# Altium footprint library TPS62932DRLR.PcbLib: 3 footprints
Each footprint in its own frame and in the unit in brackets; x right, y up, seen from the top. Pads: shape width x height; smd on the part's side, far side on the other; paste and mask are expansions set on the pad; w line width, h text height; cw(c..) or ccw(c..) is an arc to the next point about the centre after c.
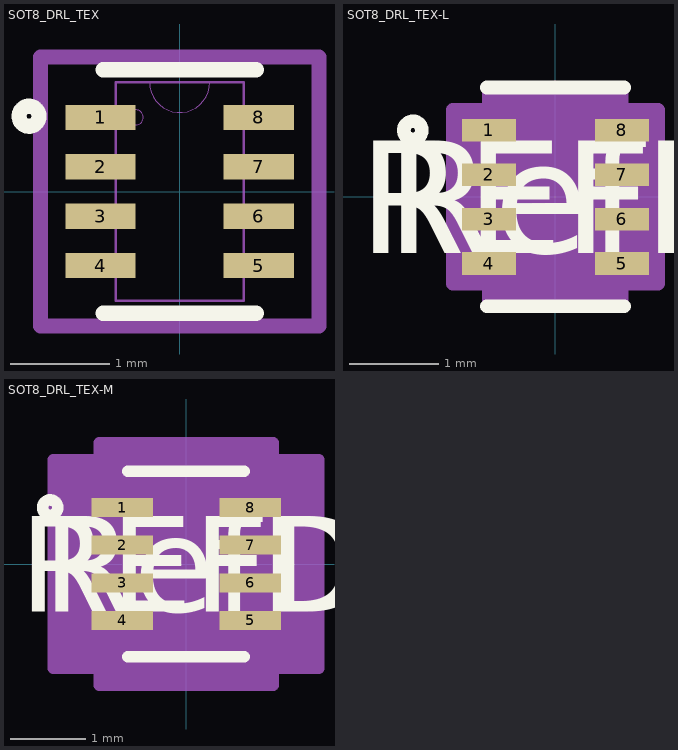
[diagram p0: the footprints below, top view; thin cyan lines are the x and y axes]

## SOT8_DRL_TEX [mil]
pads (8):
  rect 28x10 smd paste+0 mask+0: 1(-31.5,29.54) 2(-31.5,9.85) 3(-31.5,-9.85) 4(-31.5,-29.54) 5(31.5,-29.54) 6(31.5,-9.85) 7(31.5,9.85) 8(31.5,29.54)
Top Overlay:
  circle w6: c-60,30 r4
  lines w6: -30.5,-48.5 30.5,-48.5 ; -30.5,48.5 30.5,48.5
Mechanical 13:
  circle w0: c-17.5,29.54 r3
  lines w0: -12,43.5 ccw(c0,43.5) 12,43.5
  lines w1: -25.5,-43.5 25.5,-43.5 25.5,43.5 -25.5,43.5 -25.5,-43.5
Mechanical 15:
  lines w6: -55.5,-53.5 -55.5,53.5 55.5,53.5 55.5,-53.5 -55.5,-53.5
3D body "DRL0008A.stp": height 23.62, standoff 0, extent -31.5,-41.34 31.5,41.34

## SOT8_DRL_TEX-L [mil]
pads (8):
  rect 24x10 smd paste+0 mask+0: 1(-29.5,29.54) 2(-29.5,9.85) 3(-29.5,-9.85) 4(-29.5,-29.54) 5(29.5,-29.54) 6(29.5,-9.85) 7(29.5,9.85) 8(29.5,29.54)
Top Overlay:
  circle w6: c-63.19,29.54 r4
  lines w6: -30.5,-48.5 30.5,-48.5 ; -30.5,48.5 30.5,48.5
  text "RefDes" at -75,-25 h50
  text "REFDES" at -87.5,-25 h50
Mechanical 13:
  circle w0: c-17.5,29.54 r3
  lines w0: -12,43.5 ccw(c0,43.5) 12,43.5
  lines w1: -25.5,-43.5 25.5,-43.5 25.5,43.5 -25.5,43.5 -25.5,-43.5
  text "RefDes2" at -87.5,-25 h50
Mechanical 15:
  region: -29.5,-38.53 -45.5,-38.53 -45.5,38.53 -29.5,38.53 -29.5,47.5 29.5,47.5 29.5,38.53 45.5,38.53 45.5,-38.53 29.5,-38.53 29.5,-47.5 -29.5,-47.5
  lines w6: -45.5,-38.53 -45.5,38.53 -29.5,38.53 -29.5,47.5 29.5,47.5 29.5,38.53 45.5,38.53 45.5,-38.53 29.5,-38.53 29.5,-47.5 -29.5,-47.5 -29.5,-38.53 -45.5,-38.53
3D body "SOT8_DRL_TEX.step": height 32.09, standoff 0, extent -33.5,-43.5 33.5,43.5

## SOT8_DRL_TEX-M [mil]
pads (8):
  rect 32x10 smd paste+0 mask+0: 1(-33.5,29.54) 2(-33.5,9.85) 3(-33.5,-9.85) 4(-33.5,-29.54) 5(33.5,-29.54) 6(33.5,-9.85) 7(33.5,9.85) 8(33.5,29.54)
Top Overlay:
  circle w6: c-71.19,29.54 r4
  lines w6: -30.5,-48.5 30.5,-48.5 ; -30.5,48.5 30.5,48.5
  text "RefDes" at -75,-25 h50
  text "REFDES" at -87.5,-25 h50
Mechanical 13:
  circle w0: c-17.5,29.54 r3
  lines w0: -12,43.5 ccw(c0,43.5) 12,43.5
  lines w1: -25.5,-43.5 25.5,-43.5 25.5,43.5 -25.5,43.5 -25.5,-43.5
  text "RefDes2" at -87.5,-25 h50
Mechanical 15:
  region: -45.5,-54.53 -69.5,-54.53 -69.5,54.53 -45.5,54.53 -45.5,63.5 45.5,63.5 45.5,54.53 69.5,54.53 69.5,-54.53 45.5,-54.53 45.5,-63.5 -45.5,-63.5
  lines w6: -69.5,-54.53 -69.5,54.53 -45.5,54.53 -45.5,63.5 45.5,63.5 45.5,54.53 69.5,54.53 69.5,-54.53 45.5,-54.53 45.5,-63.5 -45.5,-63.5 -45.5,-54.53 -69.5,-54.53
3D body "SOT8_DRL_TEX.step": height 32.09, standoff 0, extent -33.5,-43.5 33.5,43.5